# Altium footprint library PinHeader8.PcbLib: 2 footprints
Each footprint in its own frame and in the unit in brackets; x right, y up, seen from the top. Pads: shape width x height; smd on the part's side, far side on the other; paste and mask are expansions set on the pad; w line width, h text height; cw(c..) or ccw(c..) is an arc to the next point about the centre after c.
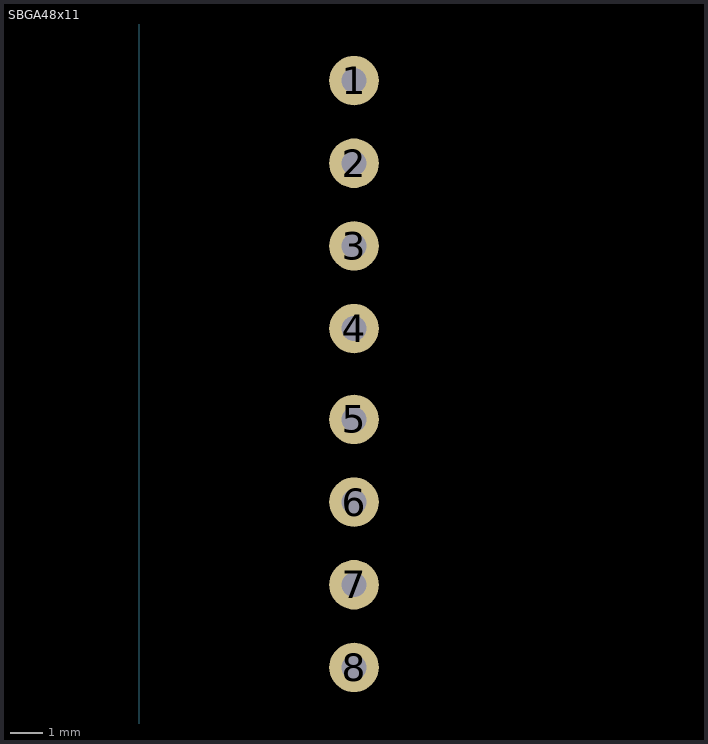
[diagram p0: the footprints below, top view; thin cyan lines are the x and y axes]

## PCBComponent_1 [mil]

## SBGA48x11 [mil]
pads (8):
  round 60 hole 30: 1(260,-190) 2(260,-290) 3(260,-390) 4(260,-490) 5(260,-600) 6(260,-700) 7(260,-800) 8(260,-900)
3D body "TS-104-G-AA.stp": height 336, standoff -141, extent 210,-543 310,-135
3D body "TS-104-G-AA.stp": height 336, standoff -141, extent 210,-953 310,-545